# Altium footprint library TC264.PcbLib: 48 footprints (part 2 of 3)
Each footprint in its own frame and in the unit in brackets; x right, y up, seen from the top. Pads: shape width x height; smd on the part's side, far side on the other; paste and mask are expansions set on the pad; w line width, h text height; cw(c..) or ccw(c..) is an arc to the next point about the centre after c.
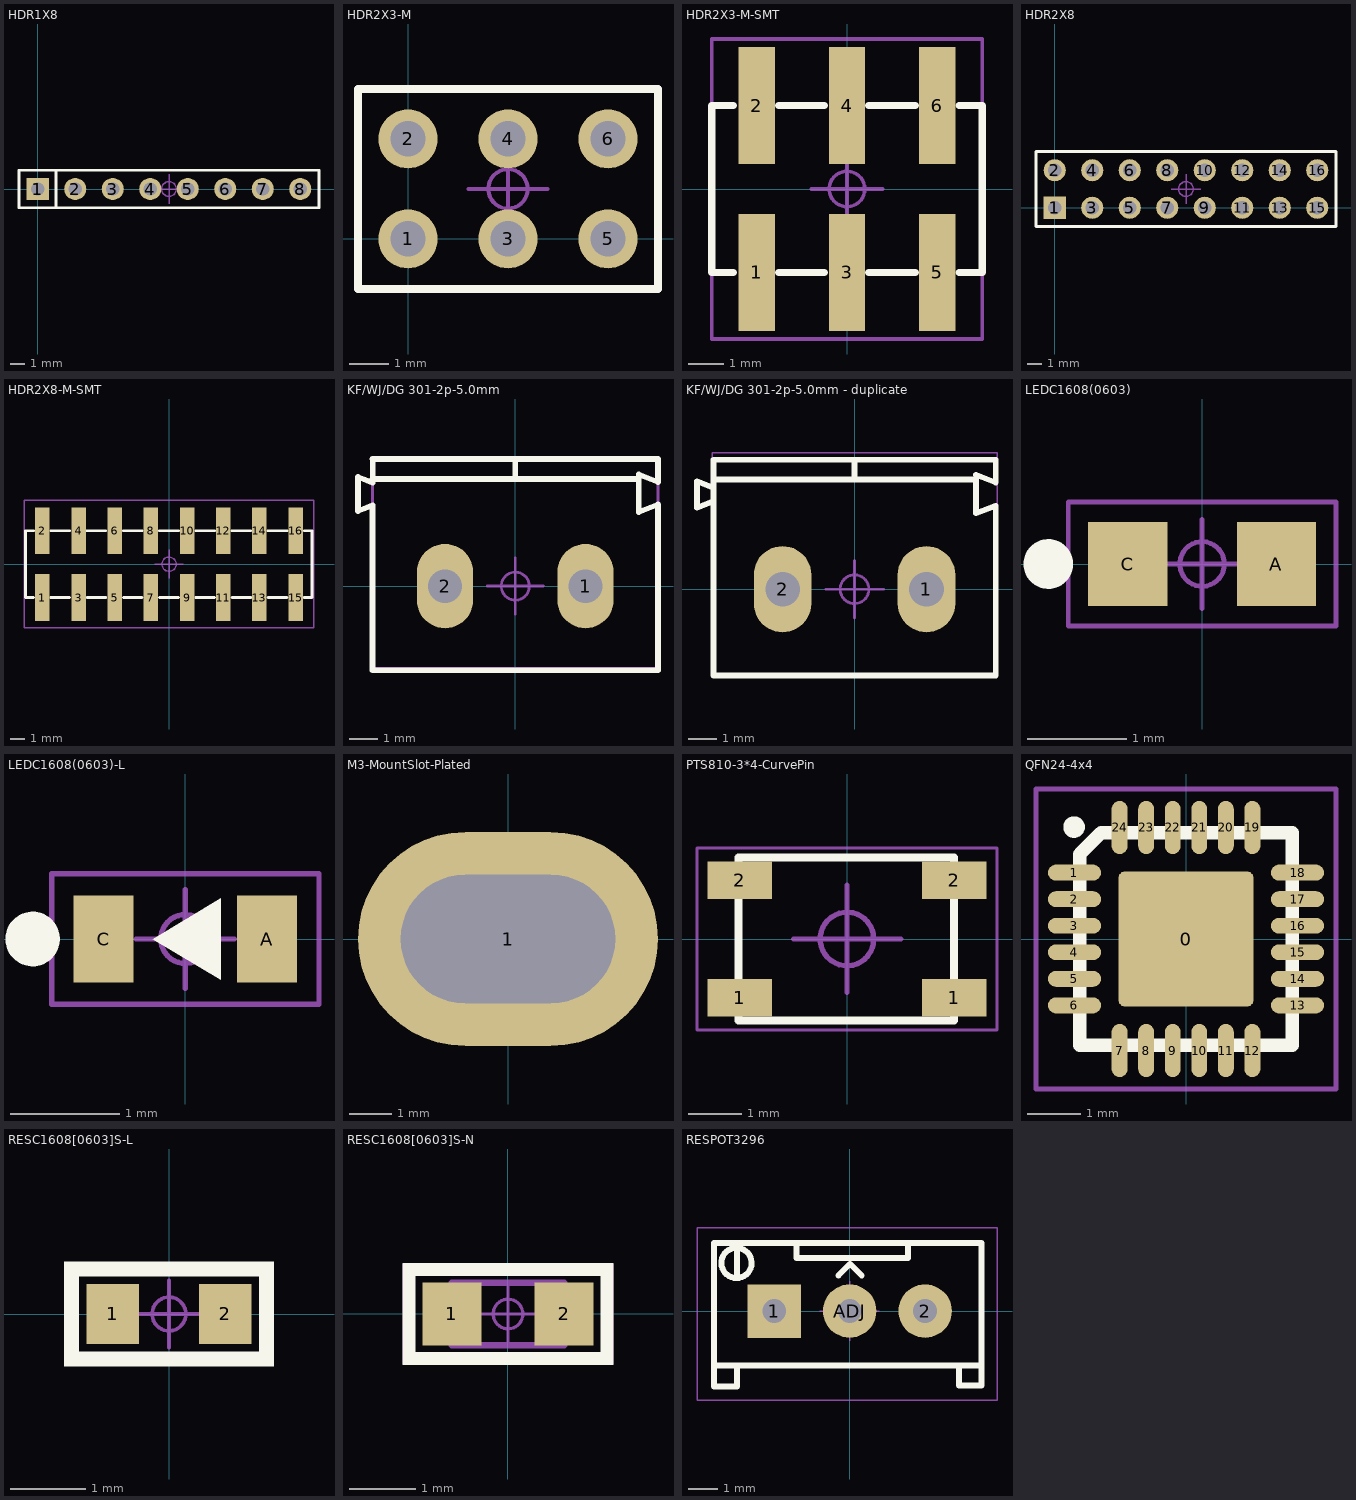
[diagram p1: the footprints below, top view; thin cyan lines are the x and y axes]

## HDR1X8 [mm] "Connector; Header; 8 Position"
pads (8):
  rect 1.5x1.5 hole 0.9: 1(0,0)
  round 1.5 hole 0.9: 2(2.54,0) 3(5.08,0) 4(7.62,0) 5(10.16,0) 6(12.7,0) 7(15.24,0) 8(17.78,0)
Top Overlay:
  lines w0.2: 1.25,-1.25 1.25,1.25 ; -1.27,-1.27 19.05,-1.27 19.05,1.27 -1.27,1.27 -1.27,-1.27
Top Component Outline:
  lines w0.1: -1.27,-1.27 19.05,-1.27 19.05,1.27 -1.27,1.27 -1.27,-1.27
Top Designator:
  text ".Designator" at 6.637,-0.226 h1
Top Component Center:
  circle w0.1: c8.89,0 r0.5
  lines w0.1: 7.89,0 9.89,0 ; 8.89,-1 8.89,1
3D body "1001-8.STEP": height 8.54, standoff -3, extent -1.27,-1.27 19.05,1.27

## HDR2X3-M [mm] "2x3pin, 2.54mm间距, 直插, 直排针"
height 0.6
pads (6):
  round 1.5 hole 0.9: 1(0,0) 2(0,2.54) 3(2.54,0) 4(2.54,2.54) 5(5.08,0) 6(5.08,2.54)
Top Overlay:
  lines w0.2: 1.482,-1.27 6.35,-1.27 ; 6.35,-1.27 -1.27,-1.27 -1.27,3.81 6.35,3.81 6.35,-1.27
Top Component Outline:
  lines w0.1: -1.27,-1.275 -1.27,3.81 6.35,3.81 6.35,-1.275 -1.27,-1.275
Top Designator:
  text ".Designator" at 0.287,1.044 h1
Top Component Center:
  circle w0.1: c2.54,1.27 r0.5
  lines w0.1: 1.54,1.27 3.54,1.27 ; 2.54,0.27 2.54,2.27
3D body "HDR2x3.STEP": height 8.54, standoff -3, extent -1.27,-1.27 6.35,3.81

## HDR2X3-M-SMT [mm] "2x3pin, 2.54mm间距, SMT, 直排针"
pads (6):
  rect 1.02x3.3 smd: 1(-2.54,-2.35) 2(-2.54,2.35) 3(0,-2.35) 4(0,2.35) 5(2.54,-2.35) 6(2.54,2.35)
Top Overlay:
  lines w0.2: -3.2,-2.35 -3.81,-2.35 -3.81,2.35 -3.2,2.35 ; -1.93,-2.35 -0.635,-2.35 ; -1.93,2.35 -0.635,2.35 ; 0.61,-2.35 1.93,-2.35 ; 0.61,2.35 1.93,2.35 ; 3.15,-2.35 3.81,-2.35 3.81,2.35 3.15,2.35
Top Component Outline:
  lines w0.1: -3.81,-4.225 3.81,-4.225 3.81,4.225 -3.81,4.225 -3.81,-4.225
Top Designator:
  text ".Designator" at 2.253,0.226 h1
Top Component Center:
  circle w0.1: c0,0 r0.5
  lines w0.1: -1,0 1,0 ; 0,-1 0,1
3D body "61000621121.stp": height 9.67, standoff 0.07, extent -3.81,-3.75 3.81,3.75

## HDR2X8 [mm] "Connector; Header; 8x2 Position"
pads (16):
  rect 1.5x1.5 hole 0.9: 1(0,0)
  round 1.5 hole 0.9: 2(0,2.54) 3(2.54,0) 4(2.54,2.54) 5(5.08,0) 6(5.08,2.54) 7(7.62,0) 8(7.62,2.54) 9(10.16,0) 10(10.16,2.54) 11(12.7,0) 12(12.7,2.54) 13(15.24,0) 14(15.24,2.54) 15(17.78,0) 16(17.78,2.54)
Top Overlay:
  lines w0.2: -1.27,-1.27 19.05,-1.27 19.05,3.81 -1.27,3.81 -1.27,-1.27
Top Component Outline:
  lines w0.1: -1.27,-1.27 -1.27,3.81 19.05,3.81 19.05,-1.27 -1.27,-1.27
Top Designator:
  text ".Designator" at 6.637,1.044 h1
Top Component Center:
  circle w0.1: c8.89,1.27 r0.5
  lines w0.1: 7.89,1.27 9.89,1.27 ; 8.89,0.27 8.89,2.27
3D body "HDR2x8.STEP": height 8.54, standoff -3, extent -1.27,-1.27 19.05,3.81

## HDR2X8-M-SMT [mm] "2x8pin, 2.54mm间距, SMT, 直排针"
pads (16):
  rect 1.02x3.3 smd: 1(-8.89,-2.35) 2(-8.89,2.35) 3(-6.35,-2.35) 4(-6.35,2.35) 5(-3.81,-2.35) 6(-3.81,2.35) 7(-1.27,-2.35) 8(-1.27,2.35) 9(1.27,-2.35) 10(1.27,2.35) 11(3.81,-2.35) 12(3.81,2.35) 13(6.35,-2.35) 14(6.35,2.35) 15(8.89,-2.35) 16(8.89,2.35)
Top Overlay:
  lines w0.2: -10.083,2.35 -9.525,2.35 ; -10.083,2.35 -10.083,-2.35 -9.524,-2.35 ; -8.305,2.35 -6.985,2.35 ; -8.305,-2.35 -6.984,-2.35 ; -5.765,2.35 -4.445,2.35 ; -5.765,-2.35 -4.444,-2.35 ; -3.2,2.35 -1.905,2.35 ; -3.2,-2.35 -1.904,-2.35 ; -0.66,2.35 0.661,2.35 ; -0.66,-2.35 0.661,-2.35 ; 1.88,2.35 3.201,2.35 ; 1.88,-2.35 3.201,-2.35 ; 4.42,2.35 5.741,2.35 ; 4.42,-2.35 5.741,-2.35 ; 6.96,2.35 8.281,2.35 ; 6.96,-2.35 8.281,-2.35 ; 9.5,2.35 10.059,2.35 ; 9.5,-2.35 10.059,-2.35 10.059,2.35
Top Component Outline:
  lines w0.1: -10.16,-4.475 10.16,-4.475 10.16,4.5 -10.16,4.5 -10.16,-4.475
Top Designator:
  text ".Designator" at -2.253,-0.213 h1
Top Component Center:
  circle w0.1: c0,0 r0.5
  lines w0.1: -1,0 1,0 ; 0,-1 0,1
3D body "61031621121.stp": height 9.67, standoff 0.07, extent -10.16,-3.75 10.16,3.75

## KF/WJ/DG 301-2p-5.0mm [mm] "2P 5.08mm间距 接线端子"
pads (2):
  oval 2x3 hole 1.2: 1(2.5,0) 2(-2.5,0)
Top Overlay:
  lines w0.2: -5.08,2.879 -5.6,2.676 -5.6,3.886 -5.08,3.683 -5.08,4.525 ; 5.08,-2.997 5.08,2.904 4.394,2.636 4.394,3.976 5.08,3.708 5.08,4.525
  lines w0.203: -5.08,2.879 -5.08,-2.997 5.08,-2.997 ; -5.08,3.81 4.365,3.81 ; -5.08,4.525 5.08,4.525 ; 0,3.81 0,4.445
Top Component Outline:
  lines w0.1: -5.08,-2.921 -5.08,4.572 5.08,4.572 5.08,-2.921 -5.08,-2.921
Top Designator:
  text ".Designator" at -2.512,0.538 h1
Top Component Center:
  circle w0.1: c0,0 r0.5
  lines w0.1: -1,0 1,0 ; 0,-1 0,1
3D body "Terminal-Screw-3A-2way.step": height 10, standoff -3, extent -5.6,-3 5,4.6

## KF/WJ/DG 301-2p-5.0mm - duplicate [mm] "2P 5mm间距 接线端子"
height 0.6
pads (2):
  oval 2x3 hole 1.2: 1(2.5,0) 2(-2.5,0)
Top Overlay:
  lines w0.2: -4.905,3.056 -5.475,2.833 -5.475,3.753 -4.903,3.53 ; -4.905,3.095 -4.905,3.81 -4.905,4.5 ; 4.219,3.81 4.219,2.636 4.905,2.904 4.905,-2.997 ; 4.219,3.976 4.905,3.708 4.905,4.5
  lines w0.203: -4.905,3.056 -4.905,-2.997 4.905,-2.997 ; -4.905,3.81 4.219,3.81 ; -4.905,4.5 4.905,4.5 ; 0,3.81 0,4.445
Top Component Outline:
  lines w0.05: -4.95,-2.971 -4.95,4.75 4.95,4.75 4.95,-2.971 -4.95,-2.971
Top Designator:
  text ".Designator" at -2.253,-0.226 h1
Top Component Center:
  circle w0.1: c0,0 r0.5
  lines w0.1: -1,0 1,0 ; 0,-1 0,1
3D body "Terminal-Screw-3A-2way.step": height 10.1, standoff -2.9, extent -5.6,-3 5,4.6

## LEDC1608(0603) [mm] "LED,Chip;1.60mm L X 0.80mm W X 0.80mm H"
height 0.8
pads (2):
  rect 0.8x0.85 smd: A(0.75,0) C(-0.75,0)
Top Overlay:
  circle w0.25: c-1.55,0 r0.125
Top Component Outline:
  lines w0.05: -1.35,-0.625 -1.35,0.625 1.35,0.625 1.35,-0.625 -1.35,-0.625
Top Designator:
  text ".Designator" at 2.04,0.226 h1
Top Component Center:
  circle w0.05: c0,0 r0.225
  lines w0.05: -0.45,0 0.45,0 ; 0,-0.45 0,0.45
3D body: height 0.64, standoff 0, extent -0.559,-0.4 0.559,0.4
3D body "0603 (1608) LED Base (Separate Lens).STEP": height 0.64, standoff 0, extent -0.8,-0.4 0.8,0.4

## LEDC1608(0603)-L [mm] "LED,Chip;1.60mm L X 0.80mm W X 0.80mm H"
height 0.8
pads (2):
  rect 0.55x0.8 smd: A(0.75,0) C(-0.75,0)
Top Overlay:
  circle w0.25: c-1.4,0 r0.125
  region: -0.3,0 0.325,0.375 0.325,-0.375
Top Component Outline:
  lines w0.05: -1.225,-0.6 -1.225,0.6 1.225,0.6 1.225,-0.6 -1.225,-0.6
Top Designator:
  text ".Designator" at -2.453,-0.226 h1
Top Component Center:
  circle w0.05: c0,0 r0.225
  lines w0.05: -0.45,0 0.45,0 ; 0,-0.45 0,0.45
3D body: height 0.64, standoff 0, extent -0.559,-0.4 0.559,0.4
3D body "0603 (1608) LED Base (Separate Lens).STEP": height 0.64, standoff 0, extent -0.8,-0.4 0.8,0.4

## M3-MountSlot-Plated [mm] "M3-MountHole"
height 0.6
pads (1):
  oval 7x5 hole 3 slot 5 at 0 deg: 1(0,0)

## PCBComponent_1 [mm]

## PTS810-3*4-CurvePin [mm] "3*4 白色 汽车遥控器贴片按键 包脚"
height 4.32
pads (4):
  rect 1.2x0.7 smd: 1(-2,-1.1) 1(2,-1.1) 2(-2,1.1) 2(2,1.1)
Top Overlay:
  lines w0.152: -2.025,-1.524 2,-1.524 2,1.524 -2.025,1.524 -2.025,-1.524
Top Component Outline:
  lines w0.05: -2.8,-1.7 -2.8,1.7 2.8,1.7 2.8,-1.7 -2.8,-1.7
Top Designator:
  text ".Designator" at -2.253,-0.226 h1
Top Component Center:
  circle w0.1: c0,0 r0.5
  lines w0.1: -1,0 1,0 ; 0,-1 0,1
3D body "User Library-PTS810.STEP": height 2.5, standoff 0, extent -2.301,-1.6 2.299,1.6

## QFN24-4x4 [mm]
height 0.6
pads (25):
  rrect10% 2.55x2.55 smd: 0(0,0)
  oval 1x0.3 smd: 1(-2.1,1.25) 2(-2.1,0.75) 3(-2.1,0.25) 4(-2.1,-0.25) 5(-2.1,-0.75) 6(-2.1,-1.25) 13(2.1,-1.25) 14(2.1,-0.75) 15(2.1,-0.25) 16(2.1,0.25) 17(2.1,0.75) 18(2.1,1.25)
  oval 0.3x1 smd: 7(-1.25,-2.1) 8(-0.75,-2.1) 9(-0.25,-2.1) 10(0.25,-2.1) 11(0.75,-2.1) 12(1.25,-2.1) 19(1.25,2.1) 20(0.75,2.1) 21(0.25,2.1) 22(-0.25,2.1) 23(-0.75,2.1) 24(-1.25,2.1)
Top Overlay:
  circle w0.203: c-2.108,2.108 r0.102
  lines w0.254: -2,-2 -2,1.6 -1.6,2 2,2 2,-2 -2,-2
Top Component Outline:
  lines w0.1: -2.825,-2.825 -2.825,2.825 2.825,2.825 2.825,-2.825 -2.825,-2.825
Top Designator:
  text ".Designator" at -2.253,-0.226 h1
Top Component Center:
  circle w0.05: c0,0 r0.225
  lines w0.05: -0.45,0 0.45,0 ; 0,-0.45 0,0.45
3D body "User Library-QFN 24 4x4.step": height 0.9, standoff 0, extent -2.002,-2.002 2.002,2.002

## RESC1608[0603]S-L [mm] "0603贴片电阻 有丝印 2脚 1.60x0.80mm IPC高密度"
height 0.6
pads (2):
  rect 0.7x0.8 smd: 1(-0.75,0) 2(0.75,0)
Top Overlay:
  rectangle: -1.4,0.5 1.4,0.7
  region: -1.4,0.7 -1.4,-0.7 -1.2,-0.7 -1.2,0.7
  rectangle: -1.4,-0.7 1.4,-0.5
  region: 1.4,-0.7 1.4,0.7 1.2,0.7 1.2,-0.7
Top Component Outline:
  rectangle: -1.35,-0.65 -1.3,0.65
  region: 1.35,0.6 1.35,0.65 -1.35,0.65 -1.35,0.6
  region: 1.35,0.65 1.3,0.65 1.3,-0.65 1.35,-0.65
  region: -1.35,-0.6 -1.35,-0.65 1.35,-0.65 1.35,-0.6
Top Designator:
  text ".Designator" at -2.253,-0.226 h1
Top Component Center:
  circle w0.05: c0,0 r0.225
  lines w0.05: -0.45,0 0.45,0 ; 0,-0.45 0,0.45
3D body "R0603.STEP": height 0.45, standoff 0, extent -0.8,-0.4 0.8,0.4

## RESC1608[0603]S-N [mm] "0603贴片电阻 有丝印 2脚 1.60x0.80mm IPC中密度"
height 0.6
pads (2):
  rect 0.9x0.95 smd: 1(-0.85,0) 2(0.85,0)
Top Overlay:
  rectangle: -1.6,-0.775 1.6,-0.575
  rectangle: -1.6,0.575 1.6,0.775
  region: -1.6,0.775 -1.6,-0.775 -1.4,-0.775 -1.4,0.775
  region: 1.6,-0.775 1.6,0.775 1.4,0.775 1.4,-0.775
Top Component Outline:
  lines w0.05: -1.575,-0.75 1.575,-0.75 1.575,0.75 -1.575,0.75 -1.575,-0.75
Top Designator:
  text ".Designator" at -2.253,-0.226 h1
Mechanical 13:
  lines w0.1: -0.85,-0.475 0.85,-0.475 0.85,0.475 -0.85,0.475 -0.85,-0.475
Top Component Center:
  circle w0.05: c0,0 r0.225
  lines w0.05: -0.45,0 0.45,0 ; 0,-0.45 0,0.45
3D body "R0603.STEP": height 0.45, standoff 0, extent -0.8,-0.4 0.8,0.4

## RESPOT3296 [mm] "Precise Multi-Winding Adjustable Resistor"
pads (3):
  rect 1.8x1.8 hole 0.8: 1(-2.54,0)
  round 1.8 hole 0.8: 2(2.54,0) ADJ(0,0)
Top Overlay:
  lines w0.2: -4.572,-2.54 -4.572,-1.75 ; -4.572,-1.841 -4.572,0.46 -4.572,1.604 -4.572,2.286 4.445,2.286 4.445,0 4.445,-2.5 3.679,-2.5 3.679,-1.912 ; -4.556,-2.54 -3.79,-2.54 -3.79,-1.952 ; -3.79,1.2 -3.79,2.25 ; -3.302,1.651 ccw(c-3.81,1.618) -3.301,1.608 ; -1.79,2.286 -1.79,1.778 1.96,1.778 1.96,2.286 ; -0.381,1.194 0.013,1.587 0.406,1.194
  lines w0.203: -4.572,-1.841 4.381,-1.841
Top Component Outline:
  lines w0.05: -5.14,-3 4.96,-3 4.96,2.8 -5.14,2.8 -5.14,-3
Top Designator:
  text ".Designator" at -2.343,-0.326 h1
Top Component Center:
  circle w0.05: c0,0 r0.5
  lines w0.05: -1,0 1,0 ; 0,-1 0,1
3D body "SW3dPS-Potenciometro Vertical.STEP": height 12.01, standoff -5.49, extent -4.6,-2.438 4.6,2.362